# EAGLE library part HT7463B (library angrypig7-IC-Power)
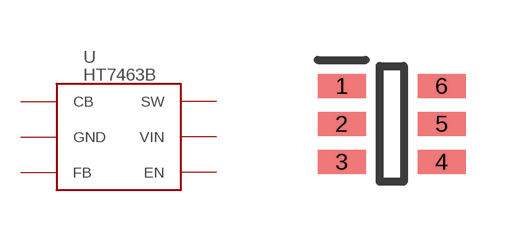
[diagram p1: symbol with the pads of SOT-23-6; footprint SOT-23-6]

Designator prefix U

## HT7463B  [SOT-23-6]
1  CB  in
2  EN  in
3  FB  pwr
4  GND  in
5  SW  out
6  VIN  out

## Footprint SOT-23-6 (pad centres in mm)
DBV (R-PDSO-G6)
smd 1.2 x 0.6: 1 -1.25,0.95; 2 -1.25,0; 3 -1.25,-0.95; 4 1.25,-0.95; 5 1.25,0; 6 1.25,0.95